# Altium schematic symbol library Schlib1.SchLib: 2 symbols
Pins are listed as number, name and electrical type; pins without a type are passive.

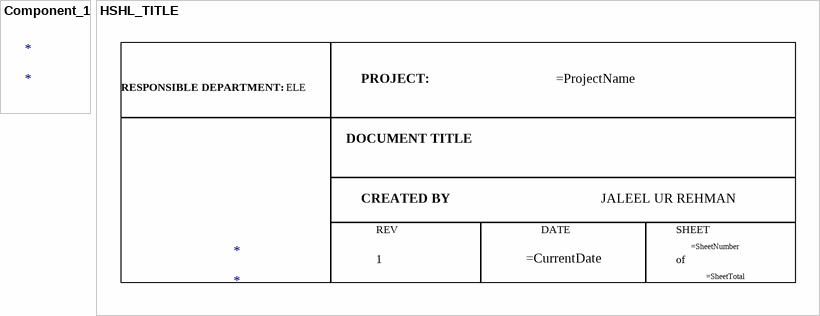
[diagram p0: symbols Component_1 to HSHL_TITLE]

## Component_1
designator *

## HSHL_TITLE
designator *  (graphical)
text: RESPONSIBLE DEPARTMENT:; ELE; PROJECT:; DOCUMENT TITLE; CREATED BY; JALEEL UR REHMAN; REV; DATE; SHEET; 1; of